# EAGLE library part TI-TPS6284X (library EagleLibrary)
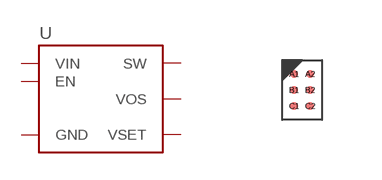
[diagram p29: symbol with the pads of TI-TPS6284XYBG; footprint TI-TPS6284XYBG]

Designator prefix U

## TI-TPS6284X (MFG: Texas Instruments)  [TI-TPS6284XYBG]
A1  GND
A2  VOS
B1  VIN
B2  SW
C1  EN
C2  VSET

## Footprint TI-TPS6284XYBG (pad centres in mm)
6-BGA, collapsing, 0.40 mm pitch, 1.47 X 0.97 X 0.50 mm body 6-pin collapsing BGA package with 0.40 mm col pitch and 0.40 mm row pitch with body size 1.47 X 0.97 X 0.50 mm
smd 0.2 x 0.2: A1 -0.2,0.4; A2 0.2,0.4; B1 -0.2,0; B2 0.2,0; C1 -0.2,-0.4; C2 0.2,-0.4